# Altium footprint library 2019-06-03_19-49-39.PcbLib: 3 footprints
Each footprint in its own frame and in the unit in brackets; x right, y up, seen from the top. Pads: shape width x height; smd on the part's side, far side on the other; paste and mask are expansions set on the pad; w line width, h text height; cw(c..) or ccw(c..) is an arc to the next point about the centre after c.
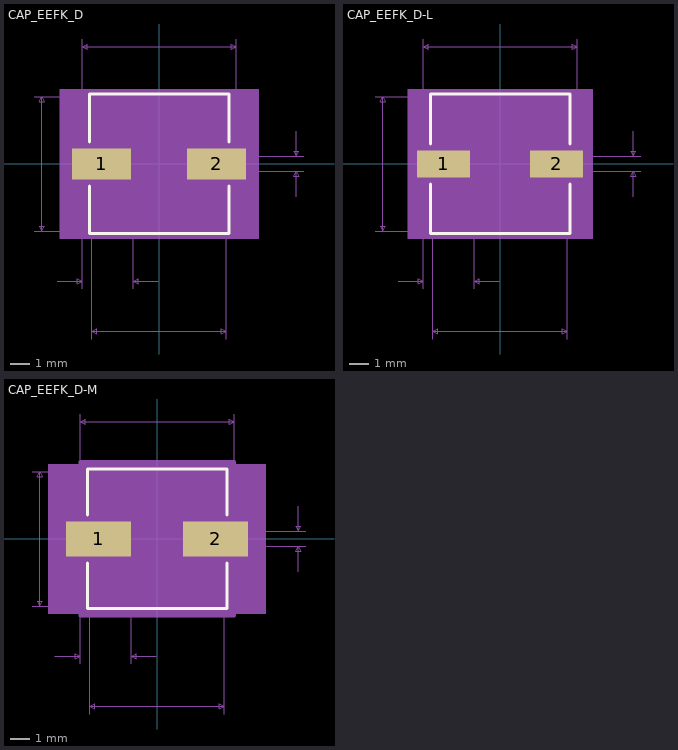
[diagram p0: the footprints below, top view; thin cyan lines are the x and y axes]

## CAP_EEFK_D [mil]
pads (2):
  rect 118x62 smd paste+0 mask+0: 1(-114.5,0) 2(114.5,0)
Top Overlay:
  lines w6: -139,-44.1 -139,-139 139,-139 139,-44.1 ; -139,44.1 -139,139 139,139 139,44.1
Mechanical 5:
  region: 198.5,-149 -198.5,-149 -198.5,149 198.5,149
Mechanical 7:
  lines w1: -249,-134 -134,-134 -134,-349 ; -249,134 -134,134 ; -203.5,-234 -153.5,-234 ; -153.5,-249 -153.5,-41 ; -153.5,41 -153.5,249 ; -51.5,-249 -51.5,-21 ; -1.5,-234 -51.5,-234 ; 134,-349 134,-134 ; 153.5,41 153.5,249 ; 183.5,-15 288.5,-15 ; 183.5,15 288.5,15 ; 273.5,-65 273.5,-15 ; 273.5,65 273.5,15 ; -234,-134 -229,-124 -239,-124 -234,-134 ; -234,-134 -234,134 ; -234,134 -229,124 -239,124 -234,134 ; -153.5,-234 -163.5,-239 -163.5,-229 -153.5,-234 ; -153.5,234 -143.5,229 -143.5,239 -153.5,234 ; -153.5,234 153.5,234 ; -134,-334 -124,-339 -124,-329 -134,-334 ; -134,-334 134,-334 ; -51.5,-234 -41.5,-239 -41.5,-229 -51.5,-234 ; 134,-334 124,-339 124,-329 134,-334 ; 153.5,234 143.5,229 143.5,239 153.5,234 ; 273.5,-15 278.5,-25 268.5,-25 273.5,-15 ; 273.5,15 278.5,25 268.5,25 273.5,15
  text "0.268in/6.807mm" at -93.75,-379 h25
  text "0.102in/2.591mm" at -196.25,-279 h25
  text "0.268in/6.807mm" at -441.5,-12.5 h25
  text "0.307in/7.798mm" at -93.75,254 h25
  text "0.03in/0.762mm" at 293.5,-12.5 h25
  text "Alternate 2 Padstyle: OX90Y60D30P" at -412.5,-644 h50
  text "Alternate 1 Padstyle: OX60Y90D30P" at -412.5,-544 h50
  text "Default Padstyle: RX118Y62D0T" at -362.5,-444 h50
Mechanical 13:
  lines w1: -134,-67 -67,-134 ; -134,67 -67,134 ; -134,-134 -134,134 134,134 134,-134 -134,-134
Mechanical 15:
  region: -144,-41 -183.5,-41 -183.5,41 -144,41 -144,144 144,144 144,41 183.5,41 183.5,-41 144,-41 144,-144 -144,-144
  lines w6: -183.5,-41 -144,-41 -144,-144 144,-144 144,-41 183.5,-41 183.5,41 144,41 144,144 -144,144 -144,41 -183.5,41 -183.5,-41
3D body: height 10, standoff 0, extent 0,0 10,10

## CAP_EEFK_D-L [mil]
pads (2):
  rect 106x54 smd paste+0 mask+0: 1(-112.5,0) 2(112.5,0)
Top Overlay:
  lines w6: -139,-40.1 -139,-139 139,-139 139,-40.1 ; -139,40.1 -139,139 139,139 139,40.1
Mechanical 5:
  region: 184.5,-149 -184.5,-149 -184.5,149 184.5,149
Mechanical 7:
  lines w1: -249,-134 -134,-134 -134,-349 ; -249,134 -134,134 ; -203.5,-234 -153.5,-234 ; -153.5,-249 -153.5,-37 ; -153.5,37 -153.5,249 ; -51.5,-249 -51.5,-17 ; -1.5,-234 -51.5,-234 ; 134,-349 134,-134 ; 153.5,37 153.5,249 ; 175.5,-15 280.5,-15 ; 175.5,15 280.5,15 ; 265.5,-65 265.5,-15 ; 265.5,65 265.5,15 ; -234,-134 -234,134 ; -234,-134 -239,-124 -229,-124 -234,-134 ; -234,134 -239,124 -229,124 -234,134 ; -153.5,-234 -163.5,-229 -163.5,-239 -153.5,-234 ; -153.5,234 153.5,234 ; -153.5,234 -143.5,239 -143.5,229 -153.5,234 ; -134,-334 134,-334 ; -134,-334 -124,-329 -124,-339 -134,-334 ; -51.5,-234 -41.5,-229 -41.5,-239 -51.5,-234 ; 134,-334 124,-329 124,-339 134,-334 ; 153.5,234 143.5,239 143.5,229 153.5,234 ; 265.5,-15 260.5,-25 270.5,-25 265.5,-15 ; 265.5,15 260.5,25 270.5,25 265.5,15
  text "Default Padstyle: RX106Y54D0T" at -362.5,-448 h50
  text "Alternate 1 Padstyle: OX60Y90D30P" at -412.5,-548 h50
  text "Alternate 2 Padstyle: OX90Y60D30P" at -412.5,-648 h50
  text "0.03in/0.762mm" at 285.5,-12.5 h25
  text "0.307in/7.798mm" at -93.75,254 h25
  text "0.268in/6.807mm" at -441.5,-12.5 h25
  text "0.102in/2.591mm" at -196.25,-279 h25
  text "0.268in/6.807mm" at -93.75,-379 h25
Mechanical 13:
  lines w1: -134,-67 -67,-134 ; -134,67 -67,134 ; -134,-134 134,-134 134,134 -134,134 -134,-134
Mechanical 15:
  region: -138,-31 -169.5,-31 -169.5,31 -138,31 -138,138 138,138 138,31 169.5,31 169.5,-31 138,-31 138,-138 -138,-138
  lines w6: -169.5,-31 -169.5,31 -138,31 -138,138 138,138 138,31 169.5,31 169.5,-31 138,-31 138,-138 -138,-138 -138,-31 -169.5,-31
3D body: height 10, standoff 0, extent 0,0 10,10

## CAP_EEFK_D-M [mil]
pads (2):
  rect 130x70 smd paste+0 mask+0: 1(-116.5,0) 2(116.5,0)
Top Overlay:
  lines w6: -139,-48.1 -139,-139 139,-139 139,-48.1 ; -139,48.1 -139,139 139,139 139,48.1
Mechanical 5:
  region: 216.5,-149 -216.5,-149 -216.5,149 216.5,149
Mechanical 7:
  lines w1: -249,-134 -134,-134 -134,-349 ; -249,134 -134,134 ; -203.5,-234 -153.5,-234 ; -153.5,-249 -153.5,-45 ; -153.5,45 -153.5,249 ; -51.5,-249 -51.5,-25 ; -1.5,-234 -51.5,-234 ; 134,-349 134,-134 ; 153.5,45 153.5,249 ; 191.5,-15 296.5,-15 ; 191.5,15 296.5,15 ; 281.5,-65 281.5,-15 ; 281.5,65 281.5,15 ; -234,-134 -229,-124 -239,-124 -234,-134 ; -234,-134 -234,134 ; -234,134 -229,124 -239,124 -234,134 ; -153.5,-234 -163.5,-239 -163.5,-229 -153.5,-234 ; -153.5,234 -143.5,229 -143.5,239 -153.5,234 ; -153.5,234 153.5,234 ; -134,-334 -124,-339 -124,-329 -134,-334 ; -134,-334 134,-334 ; -51.5,-234 -41.5,-239 -41.5,-229 -51.5,-234 ; 134,-334 124,-339 124,-329 134,-334 ; 153.5,234 143.5,229 143.5,239 153.5,234 ; 281.5,-15 286.5,-25 276.5,-25 281.5,-15 ; 281.5,15 286.5,25 276.5,25 281.5,15
  text "0.268in/6.807mm" at -93.75,-379 h25
  text "0.102in/2.591mm" at -196.25,-279 h25
  text "0.268in/6.807mm" at -441.5,-12.5 h25
  text "0.307in/7.798mm" at -93.75,254 h25
  text "0.03in/0.762mm" at 301.5,-12.5 h25
  text "Alternate 2 Padstyle: OX90Y60D30P" at -412.5,-640 h50
  text "Alternate 1 Padstyle: OX60Y90D30P" at -412.5,-540 h50
  text "Default Padstyle: RX130Y70D0T" at -362.5,-440 h50
Mechanical 13:
  lines w1: -134,-67 -67,-134 ; -134,67 -67,134 ; -134,-134 -134,134 134,134 134,-134 -134,-134
Mechanical 15:
  region: -154,-55 -201.5,-55 -201.5,55 -154,55 -154,154 154,154 154,55 201.5,55 201.5,-55 154,-55 154,-154 -154,-154
  lines w6: -201.5,-55 -154,-55 -154,-154 154,-154 154,-55 201.5,-55 201.5,55 154,55 154,154 -154,154 -154,55 -201.5,55 -201.5,-55
3D body: height 10, standoff 0, extent 0,0 10,10